# EAGLE library part KXN_HEADER_1X9 (library kxnStandard_connector)
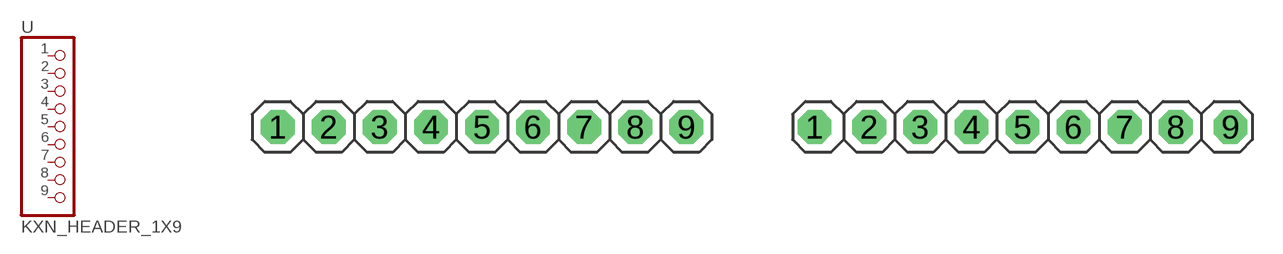
[diagram p7: symbol with the pads of HEADER_1X9_254; footprints HEADER_1X9_254, HEADER_1X9_254_LOCK]

Designator prefix -

## KXN_HEADER_1X9 (CC_SHOP: CongCo; VALUE: HEADER_BLACK_254_1X9)  [HEADER_1X9_254]
1  1  pas
2  2  pas
3  3  pas
4  4  pas
5  5  pas
6  6  pas
7  7  pas
8  8  pas
9  9  pas

## KXN_HEADER_1X9_M_LOCK (CC_SHOP: CongCo)  [HEADER_1X9_254_LOCK]
Pads as for HEADER_1X9_254

## Footprint HEADER_1X9_254 (pad centres in mm)
drill 0.9 pad 1.676 octagon: 1 -10.16,0
drill 0.95 pad 1.676 octagon: 2 -7.62,0; 3 -5.08,0; 4 -2.54,0; 5 0,0; 6 2.54,0; 7 5.08,0; 8 7.62,0; 9 10.16,0

## Footprint HEADER_1X9_254_LOCK (pad centres in mm)
drill 0.95 pad 1.676 octagon: 1 -10.34,0; 2 -7.62,0; 3 -5.08,0; 4 -2.54,0; 5 0,0; 6 2.54,0; 7 5.08,0; 8 7.62,0; 9 10.34,0